# EAGLE library part ESP32-PITCH-CONVERSION (library esp32-component-libraries_v151)
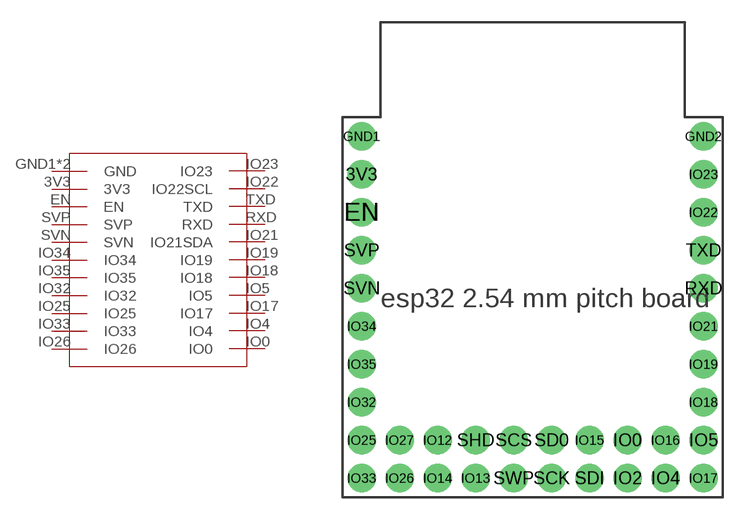
[diagram p2: symbol with the pads of ESP32-PITCH-CONVERSION-BOARD; footprint ESP32-PITCH-CONVERSION-BOARD]

Designator prefix -

## ESP32-PITCH-CONVERSION  [ESP32-PITCH-CONVERSION-BOARD]
3V3  3V3
EN  EN
GND1  GND
GND2  GND
IO0  IO0
IO4  IO4
IO5  IO5
IO17  IO17
IO18  IO18
IO19  IO19
IO21  IO21SDA
IO22  IO22SCL
IO23  IO23
IO25  IO25
IO26  IO26
IO32  IO32
IO33  IO33
IO34  IO34
IO35  IO35
RXD  RXD
SVN  SVN
SVP  SVP
TXD  TXD

## Footprint ESP32-PITCH-CONVERSION-BOARD (pad centres in mm)
drill 1.27: 3V3 -11.43,8.89; EN -11.43,6.35; GND2 11.43,11.43; IO0 6.35,-8.89; IO2 6.35,-11.43; IO4 8.89,-11.43; IO5 11.43,-8.89; IO12 -6.35,-8.89; IO13 -3.81,-11.43; IO14 -6.35,-11.43; IO15 3.81,-8.89; IO16 8.89,-8.89; IO17 11.43,-11.43; IO18 11.43,-6.35; IO19 11.43,-3.81; IO21 11.43,-1.27; IO22 11.43,6.35; IO23 11.43,8.89; IO25 -11.43,-8.89; IO26 -8.89,-11.43; IO27 -8.89,-8.89; IO32 -11.43,-6.35; IO33 -11.43,-11.43; IO34 -11.43,-1.27; IO35 -11.43,-3.81; RXD 11.43,1.27; SCK 1.27,-11.43; SCS -1.27,-8.89; SD0 1.27,-8.89; SDI 3.81,-11.43; SHD -3.81,-8.89; SVN -11.43,1.27; SVP -11.43,3.81; SWP -1.27,-11.43; TXD 11.43,3.81
drill 1.27 pad 1.93: GND1 -11.43,11.43